# Altium footprint library NTB0104UK,012.PcbLib: 1 footprints
Each footprint in its own frame and in the unit in brackets; x right, y up, seen from the top. Pads: shape width x height; smd on the part's side, far side on the other; paste and mask are expansions set on the pad; w line width, h text height; cw(c..) or ccw(c..) is an arc to the next point about the centre after c.
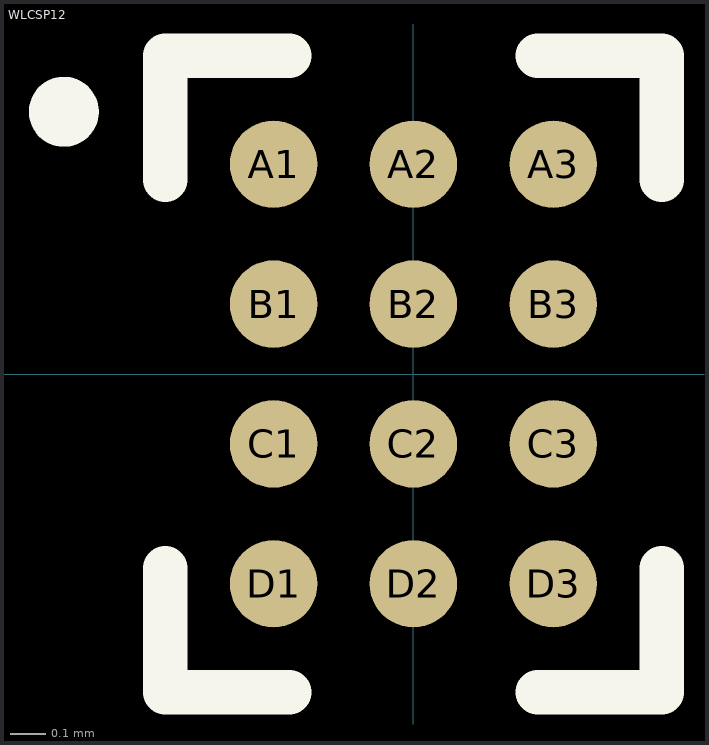
[diagram p0: the footprint, top view; thin cyan lines are the x and y axes]

## WLCSP12 [mm]
pads (12):
  round 0.25 smd: A1(-0.4,0.6) A2(0,0.6) A3(0.4,0.6) B1(-0.4,0.2) B2(0,0.2) B3(0.4,0.2) C1(-0.4,-0.2) C2(0,-0.2) C3(0.4,-0.2) D1(-0.4,-0.6) D2(0,-0.6) D3(0.4,-0.6)
Top Overlay:
  circle w0.1: c-1,0.75 r0.05
  lines w0.127: -0.71,-0.555 -0.71,-0.91 -0.355,-0.91 ; -0.71,0.555 -0.71,0.91 -0.355,0.91 ; 0.355,-0.91 0.71,-0.91 0.71,-0.555 ; 0.355,0.91 0.71,0.91 0.71,0.555
Top Designator:
  text ".Designator" at -4.318,-0.508 h1.52